# Altium integrated library TI Power Management Step-Down Regulator.IntLib: 531 symbols (part 23 of 32)
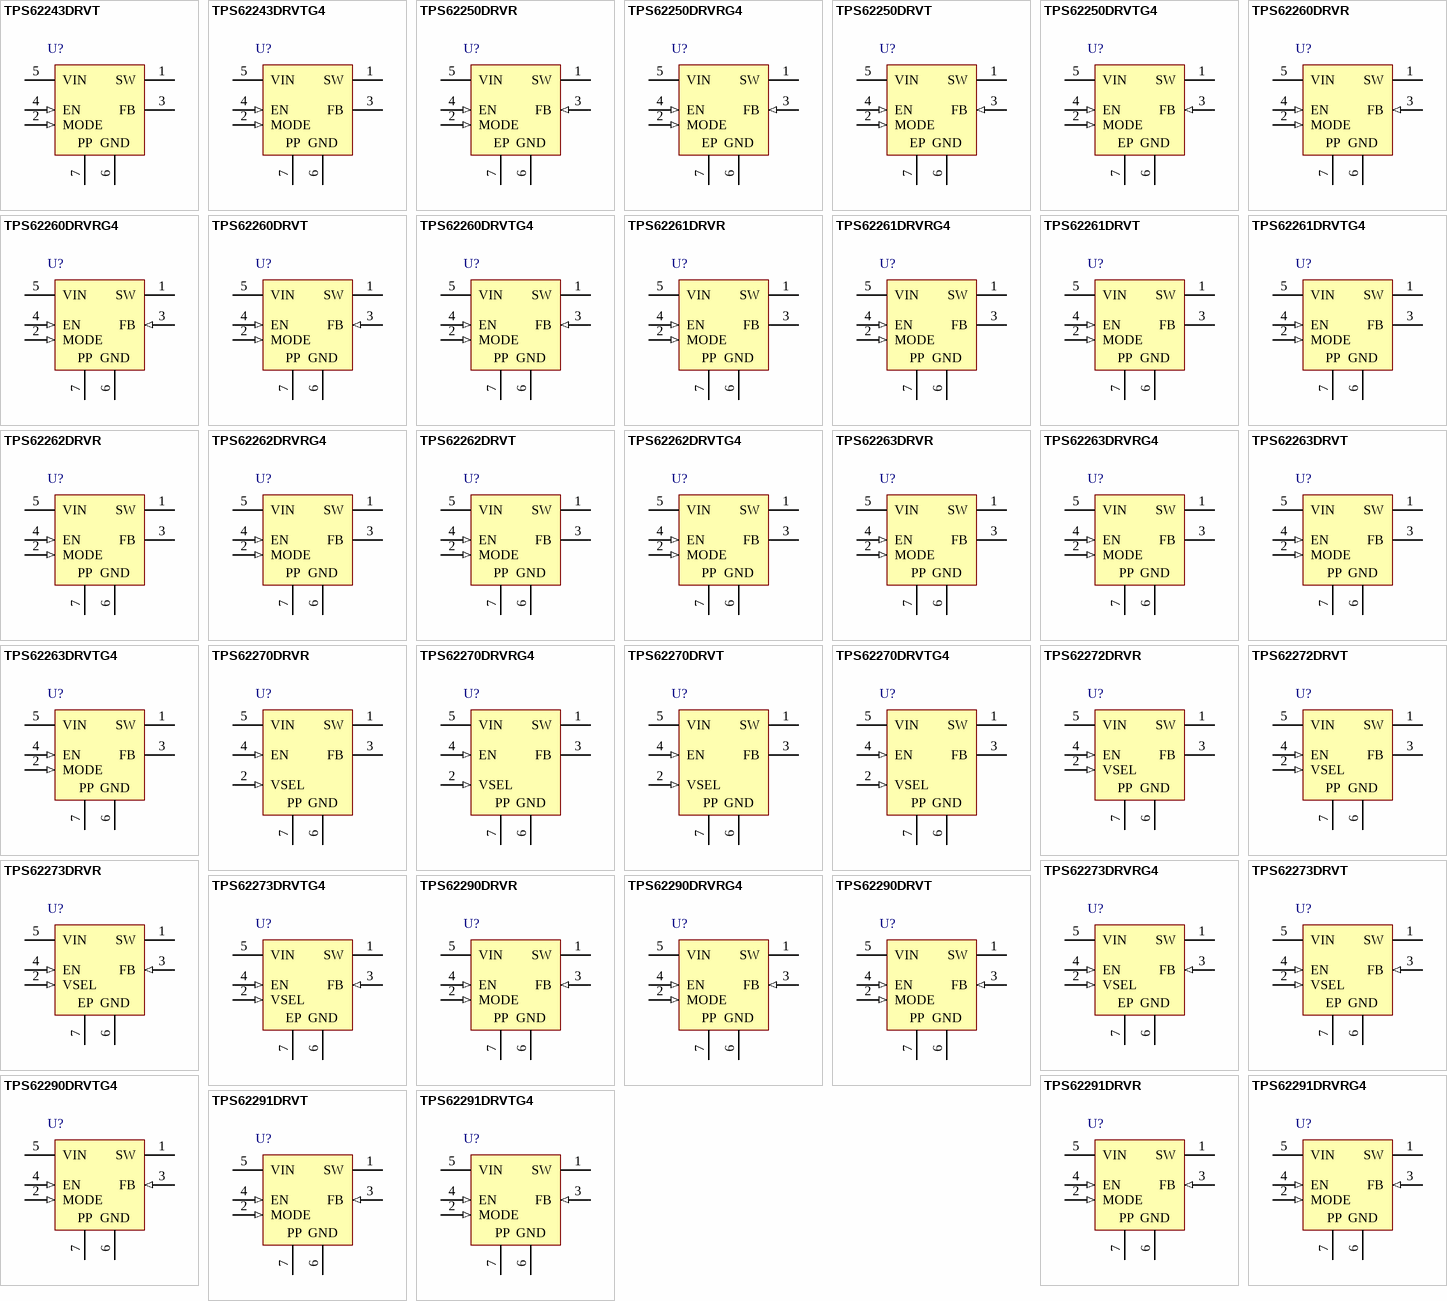
[diagram p40: symbols TPS62243DRVT to TPS62291DRVTG4]

## TPS62273DRVT
designator U?
Buck Step Down Regulator with 2 to 6 V Input and 2.5 to 3.3 V Output, -40 to 85 degC, 6-Pin SON (DRV), Green (RoHS & no Sb/Br); PartNumber: TPS62273DRVT; Manufacturer: Texas Instruments; Duty Cycle(Max)(%): 100; Dynamic Voltage Scaling: TRUE; Iout(Max)(A): 0.4; Iq(Typ)(mA): 0.015; Rating: Catalog; Regulated Outputs(#): 1; SubFamily: Step-Down Regulator; Switch Current Limit(Typ)(A): 0.7; Vin(Max)(V): 6; Vin(Min)(V): 2; Vout(Max)(V): 2.5; Vout(Min)(V): 3.3; DatasheetVersion: SLVS799C; PackageVersion: revE, Oct-2010; PackageReference: DRV6-1600X1000TP; PackageDescription: 6-Pin Plastic Small Outline No-Lead, 2 x 2 x 0.8 mm Body, 0.65 mm Pitch, Exposed Pad; Supplier 1: Digi-Key; Supplier Part Number 1: 296-32507-2-ND; Supplier 2: Digi-Key; Supplier Part Number 2: 296-32507-1-ND; Supplier 3: Digi-Key; Supplier Part Number 3: 296-32507-6-ND; Supplier 4: Mouser; Supplier Part Number 4: 595-TPS62273DRVT; Eco-Plan: Green (RoHS & no Sb/Br); Synchronous Rectification: TRUE; Topology: Buck; Mounting Technology: Surface Mount; ComponentLink1Description: Datasheet; ComponentLink1URL: http://www.ti.com/general/docs/lit/getliterature.tsp?genericPartNumber=TPS62273&fileType=pdf; ComponentLink2Description: URL Link1; ComponentLink2URL: Samples URL:http://www.ti.com/product/tps62273#samples
footprint DRV6-1600X1000TP (SON, 6-Leads, Body 2x2mm, Pitch 0.65mm, Thermal Pad 1.6x1mm, TI Recommended)
pins: 1 SW (power) "This is the switch pin and is connected to the internal MOSFET switches. Connect the inductor to this terminal", 2 VSEL (in) "Voltage Select input. Please refer to table ordering information for available output voltage selections.", 3 FB (in) "Feedback Pin for the internal regulation loop. Connect the external resistor divider to this pin. In case of fixed output voltage option, connect this pin directly to the output capacitor", 4 EN (in) "This is the enable pin of the device. Pulling this pin to low forces the device into shutdown mode. Pulling this pin to high enables the device. This pin must be terminated.", 5 VIN (power) "VIN power supply pin.", 6 GND (power) "GND supply pin", 7 EP (power) "Exposed Pad"

## TPS62273DRVTG4
designator U?
Buck Step Down Regulator with 2 to 6 V Input and 2.5 to 3.3 V Output, -40 to 85 degC, 6-Pin SON (DRV), Green (RoHS & no Sb/Br); PartNumber: TPS62273DRVTG4; Manufacturer: Texas Instruments; Duty Cycle(Max)(%): 100; Dynamic Voltage Scaling: TRUE; Iout(Max)(A): 0.4; Iq(Typ)(mA): 0.015; Rating: Catalog; Regulated Outputs(#): 1; SubFamily: Step-Down Regulator; Switch Current Limit(Typ)(A): 0.7; Vin(Max)(V): 6; Vin(Min)(V): 2; Vout(Max)(V): 2.5; Vout(Min)(V): 3.3; DatasheetVersion: SLVS799C; PackageVersion: revE, Oct-2010; PackageReference: DRV6-1600X1000TP; PackageDescription: 6-Pin Plastic Small Outline No-Lead, 2 x 2 x 0.8 mm Body, 0.65 mm Pitch, Exposed Pad; Supplier 1: Digi-Key; Supplier Part Number 1: TPS62273DRVTG4-ND; Supplier 2: Mouser; Supplier Part Number 2: 595-TPS62273DRVTG4; Eco-Plan: Green (RoHS & no Sb/Br); Synchronous Rectification: TRUE; Topology: Buck; Mounting Technology: Surface Mount; ComponentLink1Description: Datasheet; ComponentLink1URL: http://www.ti.com/general/docs/lit/getliterature.tsp?genericPartNumber=TPS62273&fileType=pdf; ComponentLink2Description: URL Link1; ComponentLink2URL: Samples URL:http://www.ti.com/product/tps54611#samples
footprint DRV6-1600X1000TP (SON, 6-Leads, Body 2x2mm, Pitch 0.65mm, Thermal Pad 1.6x1mm, TI Recommended)
pins: 1 SW (power) "This is the switch pin and is connected to the internal MOSFET switches. Connect the inductor to this terminal", 2 VSEL (in) "Voltage Select input. Please refer to table ordering information for available output voltage selections.", 3 FB (in) "Feedback Pin for the internal regulation loop. Connect the external resistor divider to this pin. In case of fixed output voltage option, connect this pin directly to the output capacitor", 4 EN (in) "This is the enable pin of the device. Pulling this pin to low forces the device into shutdown mode. Pulling this pin to high enables the device. This pin must be terminated.", 5 VIN (power) "VIN power supply pin.", 6 GND (power) "GND supply pin", 7 EP (power) "Exposed Pad"

## TPS62290DRVR
designator U?
Buck Step Down Regulator with 2.3 to 6 V Input and 0.6 to 6 V Output, -40 to 85 degC, 6-Pin SON (DRV), Green (RoHS & no Sb/Br); PartNumber: TPS62290DRVR; Manufacturer: Texas Instruments; Duty Cycle(Max)(%): 100; Iout(Max)(A): 1; Iq(Typ)(mA): 0.015; Rating: Catalog; SubFamily: Step-Down Regulator; Switch Current Limit(Typ)(A): 1.4; Synchronous Rectification: TRUE; Vin(Max)(V): 6; Vin(Min)(V): 2.3; Vout(Min)(V): 0.6; DatasheetVersion: SLVS764C; PackageVersion: revE, Oct-2010; PackageReference: DRV6-1600X1000TP; PackageDescription: 6-Pin Plastic Small Outline No-Lead, 2 x 2 x 0.8 mm Body, 0.65 mm Pitch, Exposed Pad; Supplier 1: Digi-Key; Supplier Part Number 1: 296-27030-2-ND; Supplier 2: Digi-Key; Supplier Part Number 2: 296-27030-1-ND; Supplier 3: Digi-Key; Supplier Part Number 3: 296-27030-6-ND; Supplier 4: Newark; Supplier Part Number 4: 50M9135; Supplier 5: Mouser; Supplier Part Number 5: 595-TPS62290DRVR; Eco-Plan: Green (RoHS & no Sb/Br); Regulated Outputs(#): 1; Topology: Buck; Vout(Max)(V): 6; Mounting Technology: Surface Mount; ComponentLink1Description: Datasheet; ComponentLink1URL: http://www.ti.com/general/docs/lit/getliterature.tsp?genericPartNumber=TPS62290&fileType=pdf; ComponentLink2Description: URL Link1; ComponentLink2URL: Samples URL:http://www.ti.com/product/tps62290#samples
footprint DRV6-1600X1000TP (SON, 6-Leads, Body 2x2mm, Pitch 0.65mm, Thermal Pad 1.6x1mm, TI Recommended)
pins: 1 SW (power) "This is the switch pin and is connected to the internal MOSFET switches. Connect the external inductor between this terminal and the output capacitor.", 2 MODE (in) "MODE pin = high forces the device to operate in fixed frequency PWM mode. MODE pin = low enables the Power Save Mode with automatic transition from PFM mode to fixed frequency PWM mode.", 3 FB (in) "Feedback Pin for the internal regulation loop. Connect the external resistor divider to this pin. In case of fixed output voltage option, connect this pin directly to the output capacitor", 4 EN (in) "This is the enable pin of the device. Pulling this pin to low forces the device into shutdown mode. Pulling this pin to high enables the device. This pin must be terminated.", 5 VIN (power) "VIN power supply pin.", 6 GND (power) "GND supply pin", 7 PP (power) "Exposed Thermal Pad"

## TPS62290DRVRG4
designator U?
Buck Step Down Regulator with 2.3 to 6 V Input and 0.6 to 6 V Output, -40 to 85 degC, 6-Pin SON (DRV), Green (RoHS & no Sb/Br); PartNumber: TPS62290DRVRG4; Manufacturer: Texas Instruments; Duty Cycle(Max)(%): 100; Iout(Max)(A): 1; Iq(Typ)(mA): 0.015; Rating: Catalog; SubFamily: Step-Down Regulator; Switch Current Limit(Typ)(A): 1.4; Synchronous Rectification: TRUE; Vin(Max)(V): 6; Vin(Min)(V): 2.3; Vout(Min)(V): 0.6; DatasheetVersion: SLVS764C; PackageVersion: revE, Oct-2010; PackageReference: DRV6-1600X1000TP; PackageDescription: 6-Pin Plastic Small Outline No-Lead, 2 x 2 x 0.8 mm Body, 0.65 mm Pitch, Exposed Pad; Supplier 1: Digi-Key; Supplier Part Number 1: TPS62290DRVRG4-ND; Supplier 2: Newark; Supplier Part Number 2: 52M6139; Supplier 3: Mouser; Supplier Part Number 3: 595-TPS62290DRVRG4; Eco-Plan: Green (RoHS & no Sb/Br); Regulated Outputs(#): 1; Topology: Buck; Vout(Max)(V): 6; Mounting Technology: Surface Mount; ComponentLink1Description: Datasheet; ComponentLink1URL: http://www.ti.com/general/docs/lit/getliterature.tsp?genericPartNumber=TPS62290&fileType=pdf; ComponentLink2Description: URL Link1; ComponentLink2URL: Samples URL:http://www.ti.com/product/tps62290#samples
footprint DRV6-1600X1000TP (SON, 6-Leads, Body 2x2mm, Pitch 0.65mm, Thermal Pad 1.6x1mm, TI Recommended)
pins: 1 SW (power) "This is the switch pin and is connected to the internal MOSFET switches. Connect the external inductor between this terminal and the output capacitor.", 2 MODE (in) "MODE pin = high forces the device to operate in fixed frequency PWM mode. MODE pin = low enables the Power Save Mode with automatic transition from PFM mode to fixed frequency PWM mode.", 3 FB (in) "Feedback Pin for the internal regulation loop. Connect the external resistor divider to this pin. In case of fixed output voltage option, connect this pin directly to the output capacitor", 4 EN (in) "This is the enable pin of the device. Pulling this pin to low forces the device into shutdown mode. Pulling this pin to high enables the device. This pin must be terminated.", 5 VIN (power) "VIN power supply pin.", 6 GND (power) "GND supply pin", 7 PP (power) "Exposed Thermal Pad"

## TPS62290DRVT
designator U?
Buck Step Down Regulator with 2.3 to 6 V Input and 0.6 to 6 V Output, -40 to 85 degC, 6-Pin SON (DRV), Green (RoHS & no Sb/Br); PartNumber: TPS62290DRVT; Manufacturer: Texas Instruments; Duty Cycle(Max)(%): 100; Iout(Max)(A): 1; Iq(Typ)(mA): 0.015; Rating: Catalog; SubFamily: Step-Down Regulator; Switch Current Limit(Typ)(A): 1.4; Synchronous Rectification: TRUE; Vin(Max)(V): 6; Vin(Min)(V): 2.3; Vout(Min)(V): 0.6; DatasheetVersion: SLVS764C; PackageVersion: revE, Oct-2010; PackageReference: DRV6-1600X1000TP; PackageDescription: 6-Pin Plastic Small Outline No-Lead, 2 x 2 x 0.8 mm Body, 0.65 mm Pitch, Exposed Pad; Supplier 1: Digi-Key; Supplier Part Number 1: 296-22473-2-ND; Supplier 2: Digi-Key; Supplier Part Number 2: 296-22473-1-ND; Supplier 3: Digi-Key; Supplier Part Number 3: 296-22473-6-ND; Supplier 4: Farnell; Supplier Part Number 4: 1703400; Supplier 5: Farnell; Supplier Part Number 5: 1703400RL; Supplier 6: Newark; Supplier Part Number 6: 50M9136; Supplier 7: Mouser; Supplier Part Number 7: 595-TPS62290DRVT; Eco-Plan: Green (RoHS & no Sb/Br); Regulated Outputs(#): 1; Topology: Buck; Vout(Max)(V): 6; Mounting Technology: Surface Mount; ComponentLink1Description: Datasheet; ComponentLink1URL: http://www.ti.com/general/docs/lit/getliterature.tsp?genericPartNumber=TPS62290&fileType=pdf; ComponentLink2Description: URL Link1; ComponentLink2URL: Samples URL:http://www.ti.com/product/tps62290#samples
footprint DRV6-1600X1000TP (SON, 6-Leads, Body 2x2mm, Pitch 0.65mm, Thermal Pad 1.6x1mm, TI Recommended)
pins: 1 SW (power) "This is the switch pin and is connected to the internal MOSFET switches. Connect the external inductor between this terminal and the output capacitor.", 2 MODE (in) "MODE pin = high forces the device to operate in fixed frequency PWM mode. MODE pin = low enables the Power Save Mode with automatic transition from PFM mode to fixed frequency PWM mode.", 3 FB (in) "Feedback Pin for the internal regulation loop. Connect the external resistor divider to this pin. In case of fixed output voltage option, connect this pin directly to the output capacitor", 4 EN (in) "This is the enable pin of the device. Pulling this pin to low forces the device into shutdown mode. Pulling this pin to high enables the device. This pin must be terminated.", 5 VIN (power) "VIN power supply pin.", 6 GND (power) "GND supply pin", 7 PP (power) "Exposed Thermal Pad"

## TPS62290DRVTG4
designator U?
Buck Step Down Regulator with 2.3 to 6 V Input and 0.6 to 6 V Output, -40 to 85 degC, 6-Pin SON (DRV), Green (RoHS & no Sb/Br); PartNumber: TPS62290DRVTG4; Manufacturer: Texas Instruments; Duty Cycle(Max)(%): 100; Iout(Max)(A): 1; Iq(Typ)(mA): 0.015; Rating: Catalog; SubFamily: Step-Down Regulator; Switch Current Limit(Typ)(A): 1.4; Synchronous Rectification: TRUE; Vin(Max)(V): 6; Vin(Min)(V): 2.3; Vout(Min)(V): 0.6; DatasheetVersion: SLVS764C; PackageVersion: revE, Oct-2010; PackageReference: DRV6-1600X1000TP; PackageDescription: 6-Pin Plastic Small Outline No-Lead, 2 x 2 x 0.8 mm Body, 0.65 mm Pitch, Exposed Pad; Supplier 1: Digi-Key; Supplier Part Number 1: TPS62290DRVTG4-ND; Supplier 2: Newark; Supplier Part Number 2: 52M6140; Supplier 3: Mouser; Supplier Part Number 3: 595-TPS62290DRVTG4; Eco-Plan: Green (RoHS & no Sb/Br); Regulated Outputs(#): 1; Topology: Buck; Vout(Max)(V): 6; Mounting Technology: Surface Mount; ComponentLink1Description: Datasheet; ComponentLink1URL: http://www.ti.com/general/docs/lit/getliterature.tsp?genericPartNumber=TPS62290&fileType=pdf; ComponentLink2Description: URL Link1; ComponentLink2URL: Samples URL:http://www.ti.com/product/tps54611#samples
footprint DRV6-1600X1000TP (SON, 6-Leads, Body 2x2mm, Pitch 0.65mm, Thermal Pad 1.6x1mm, TI Recommended)
pins: 1 SW (power) "This is the switch pin and is connected to the internal MOSFET switches. Connect the external inductor between this terminal and the output capacitor.", 2 MODE (in) "MODE pin = high forces the device to operate in fixed frequency PWM mode. MODE pin = low enables the Power Save Mode with automatic transition from PFM mode to fixed frequency PWM mode.", 3 FB (in) "Feedback Pin for the internal regulation loop. Connect the external resistor divider to this pin. In case of fixed output voltage option, connect this pin directly to the output capacitor", 4 EN (in) "This is the enable pin of the device. Pulling this pin to low forces the device into shutdown mode. Pulling this pin to high enables the device. This pin must be terminated.", 5 VIN (power) "VIN power supply pin.", 6 GND (power) "GND supply pin", 7 PP (power) "Exposed Thermal Pad"

## TPS62291DRVR
designator U?
Buck Step Down Regulator with 2.3 to 6 V Input and 3.3 V Output, -40 to 85 degC, 6-Pin SON (DRV), Green (RoHS & no Sb/Br); PartNumber: TPS62291DRVR; Manufacturer: Texas Instruments; Duty Cycle(Max)(%): 100; Iout(Max)(A): 1; Iq(Typ)(mA): 0.015; Preset Vout(V): 3.3; Rating: Catalog; SubFamily: Step-Down Regulator; Switch Current Limit(Typ)(A): 1.4; Synchronous Rectification: TRUE; Vin(Max)(V): 6; Vin(Min)(V): 2.3; DatasheetVersion: SLVS764C; PackageVersion: revE, Oct-2010; PackageReference: DRV6-1600X1000TP; PackageDescription: 6-Pin Plastic Small Outline No-Lead, 2 x 2 x 0.8 mm Body, 0.65 mm Pitch, Exposed Pad; Supplier 1: Digi-Key; Supplier Part Number 1: TPS62291DRVR-ND; Supplier 2: Newark; Supplier Part Number 2: 95M0090; Supplier 3: Mouser; Supplier Part Number 3: 595-TPS62291DRVR; Eco-Plan: Green (RoHS & no Sb/Br); Regulated Outputs(#): 1; Topology: Buck; Vout(Max)(V): 3.3; Vout(Min)(V): 3.3; Mounting Technology: Surface Mount; ComponentLink1Description: Datasheet; ComponentLink1URL: http://www.ti.com/general/docs/lit/getliterature.tsp?genericPartNumber=TPS62291&fileType=pdf; ComponentLink2Description: URL Link1; ComponentLink2URL: Samples URL:http://www.ti.com/product/tps62291#samples
footprint DRV6-1600X1000TP (SON, 6-Leads, Body 2x2mm, Pitch 0.65mm, Thermal Pad 1.6x1mm, TI Recommended)
pins: 1 SW (power) "This is the switch pin and is connected to the internal MOSFET switches. Connect the external inductor between this terminal and the output capacitor.", 2 MODE (in) "MODE pin = high forces the device to operate in fixed-frequency PWM mode. Mode pin = low enables the Power Save Mode with automatic transition from PFM mode to fixed-frequency PWM mode", 3 FB (in) "Feedback Pin for the internal regulation loop. Connect the external resistor divider to this pin. In case of fixed output voltage option, connect this pin directly to the output capacitor", 4 EN (in) "This is the enable pin of the device. Pulling this pin to low forces the device into shutdown mode. Pulling this pin to high enables the device. This pin must be terminated.", 5 VIN (power) "VIN power supply pin", 6 GND (power) "GND supply pin", 7 EP "Exposed Thermal Pad"
text: PP

## TPS62291DRVRG4
designator U?
Buck Step Down Regulator with 2.3 to 6 V Input and 3.3 V Output, -40 to 85 degC, 6-Pin SON (DRV), Green (RoHS & no Sb/Br); PartNumber: TPS62291DRVRG4; Manufacturer: Texas Instruments; Duty Cycle(Max)(%): 100; Iout(Max)(A): 1; Iq(Typ)(mA): 0.015; Preset Vout(V): 3.3; Rating: Catalog; SubFamily: Step-Down Regulator; Switch Current Limit(Typ)(A): 1.4; Synchronous Rectification: TRUE; Vin(Max)(V): 6; Vin(Min)(V): 2.3; DatasheetVersion: SLVS764C; PackageVersion: revE, Oct-2010; PackageReference: DRV6-1600X1000TP; PackageDescription: 6-Pin Plastic Small Outline No-Lead, 2 x 2 x 0.8 mm Body, 0.65 mm Pitch, Exposed Pad; Supplier 1: Digi-Key; Supplier Part Number 1: TPS62291DRVRG4-ND; Supplier 2: Mouser; Supplier Part Number 2: 595-TPS62291DRVRG4; Eco-Plan: Green (RoHS & no Sb/Br); Regulated Outputs(#): 1; Topology: Buck; Vout(Max)(V): 3.3; Vout(Min)(V): 3.3; Mounting Technology: Surface Mount; ComponentLink1Description: Datasheet; ComponentLink1URL: http://www.ti.com/general/docs/lit/getliterature.tsp?genericPartNumber=TPS62291&fileType=pdf; ComponentLink2Description: URL Link1; ComponentLink2URL: Samples URL:http://www.ti.com/product/tps62291#samples
footprint DRV6-1600X1000TP (SON, 6-Leads, Body 2x2mm, Pitch 0.65mm, Thermal Pad 1.6x1mm, TI Recommended)
pins: 1 SW (power) "This is the switch pin and is connected to the internal MOSFET switches. Connect the external inductor between this terminal and the output capacitor.", 2 MODE (in) "MODE pin = high forces the device to operate in fixed-frequency PWM mode. Mode pin = low enables the Power Save Mode with automatic transition from PFM mode to fixed-frequency PWM mode", 3 FB (in) "Feedback Pin for the internal regulation loop. Connect the external resistor divider to this pin. In case of fixed output voltage option, connect this pin directly to the output capacitor", 4 EN (in) "This is the enable pin of the device. Pulling this pin to low forces the device into shutdown mode. Pulling this pin to high enables the device. This pin must be terminated.", 5 VIN (power) "VIN power supply pin", 6 GND (power) "GND supply pin", 7 EP "Exposed Thermal Pad"
text: PP

## TPS62291DRVT
designator U?
Buck Step Down Regulator with 2.3 to 6 V Input and 3.3 V Output, -40 to 85 degC, 6-Pin SON (DRV), Green (RoHS & no Sb/Br); PartNumber: TPS62291DRVT; Manufacturer: Texas Instruments; Duty Cycle(Max)(%): 100; Iout(Max)(A): 1; Iq(Typ)(mA): 0.015; Preset Vout(V): 3.3; Rating: Catalog; SubFamily: Step-Down Regulator; Switch Current Limit(Typ)(A): 1.4; Synchronous Rectification: TRUE; Vin(Max)(V): 6; Vin(Min)(V): 2.3; DatasheetVersion: SLVS764C; PackageVersion: revE, Oct-2010; PackageReference: DRV6-1600X1000TP; PackageDescription: 6-Pin Plastic Small Outline No-Lead, 2 x 2 x 0.8 mm Body, 0.65 mm Pitch, Exposed Pad; Supplier 1: Digi-Key; Supplier Part Number 1: 296-23330-2-ND; Supplier 2: Digi-Key; Supplier Part Number 2: 296-23330-1-ND; Supplier 3: Digi-Key; Supplier Part Number 3: 296-23330-6-ND; Supplier 4: Farnell; Supplier Part Number 4: 1647918RL; Supplier 5: Farnell; Supplier Part Number 5: 1647918; Supplier 6: Newark; Supplier Part Number 6: 33P8379; Supplier 7: Newark; Supplier Part Number 7: 95M0091; Supplier 8: Mouser; Supplier Part Number 8: 595-TPS62291DRVT; Eco-Plan: Green (RoHS & no Sb/Br); Regulated Outputs(#): 1; Topology: Buck; Vout(Max)(V): 3.3; Vout(Min)(V): 3.3; Mounting Technology: Surface Mount; ComponentLink1Description: Datasheet; ComponentLink1URL: http://www.ti.com/general/docs/lit/getliterature.tsp?genericPartNumber=TPS62291&fileType=pdf; ComponentLink2Description: URL Link1; ComponentLink2URL: Samples URL:http://www.ti.com/product/tps62291#samples
footprint DRV6-1600X1000TP (SON, 6-Leads, Body 2x2mm, Pitch 0.65mm, Thermal Pad 1.6x1mm, TI Recommended)
pins: 1 SW (power) "This is the switch pin and is connected to the internal MOSFET switches. Connect the external inductor between this terminal and the output capacitor.", 2 MODE (in) "MODE pin = high forces the device to operate in fixed-frequency PWM mode. Mode pin = low enables the Power Save Mode with automatic transition from PFM mode to fixed-frequency PWM mode", 3 FB (in) "Feedback Pin for the internal regulation loop. Connect the external resistor divider to this pin. In case of fixed output voltage option, connect this pin directly to the output capacitor", 4 EN (in) "This is the enable pin of the device. Pulling this pin to low forces the device into shutdown mode. Pulling this pin to high enables the device. This pin must be terminated.", 5 VIN (power) "VIN power supply pin", 6 GND (power) "GND supply pin", 7 EP "Exposed Thermal Pad"
text: PP

## TPS62291DRVTG4
designator U?
Buck Step Down Regulator with 2.3 to 6 V Input and 3.3 V Output, -40 to 85 degC, 6-Pin SON (DRV), Green (RoHS & no Sb/Br); PartNumber: TPS62291DRVTG4; Manufacturer: Texas Instruments; Duty Cycle(Max)(%): 100; Iout(Max)(A): 1; Iq(Typ)(mA): 0.015; Preset Vout(V): 3.3; Rating: Catalog; SubFamily: Step-Down Regulator; Switch Current Limit(Typ)(A): 1.4; Synchronous Rectification: TRUE; Vin(Max)(V): 6; Vin(Min)(V): 2.3; DatasheetVersion: SLVS764C; PackageVersion: revE, Oct-2010; PackageReference: DRV6-1600X1000TP; PackageDescription: 6-Pin Plastic Small Outline No-Lead, 2 x 2 x 0.8 mm Body, 0.65 mm Pitch, Exposed Pad; Supplier 1: Digi-Key; Supplier Part Number 1: TPS62291DRVTG4-ND; Supplier 2: Mouser; Supplier Part Number 2: 595-TPS62291DRVTG4; Eco-Plan: Green (RoHS & no Sb/Br); Regulated Outputs(#): 1; Topology: Buck; Vout(Max)(V): 3.3; Vout(Min)(V): 3.3; Mounting Technology: Surface Mount; ComponentLink1Description: Datasheet; ComponentLink1URL: http://www.ti.com/general/docs/lit/getliterature.tsp?genericPartNumber=TPS62291&fileType=pdf; ComponentLink2Description: URL Link1; ComponentLink2URL: Samples URL:http://www.ti.com/product/tps54611#samples
footprint DRV6-1600X1000TP (SON, 6-Leads, Body 2x2mm, Pitch 0.65mm, Thermal Pad 1.6x1mm, TI Recommended)
pins: 1 SW (power) "This is the switch pin and is connected to the internal MOSFET switches. Connect the external inductor between this terminal and the output capacitor.", 2 MODE (in) "MODE pin = high forces the device to operate in fixed-frequency PWM mode. Mode pin = low enables the Power Save Mode with automatic transition from PFM mode to fixed-frequency PWM mode", 3 FB (in) "Feedback Pin for the internal regulation loop. Connect the external resistor divider to this pin. In case of fixed output voltage option, connect this pin directly to the output capacitor", 4 EN (in) "This is the enable pin of the device. Pulling this pin to low forces the device into shutdown mode. Pulling this pin to high enables the device. This pin must be terminated.", 5 VIN (power) "VIN power supply pin", 6 GND (power) "GND supply pin", 7 EP "Exposed Thermal Pad"
text: PP

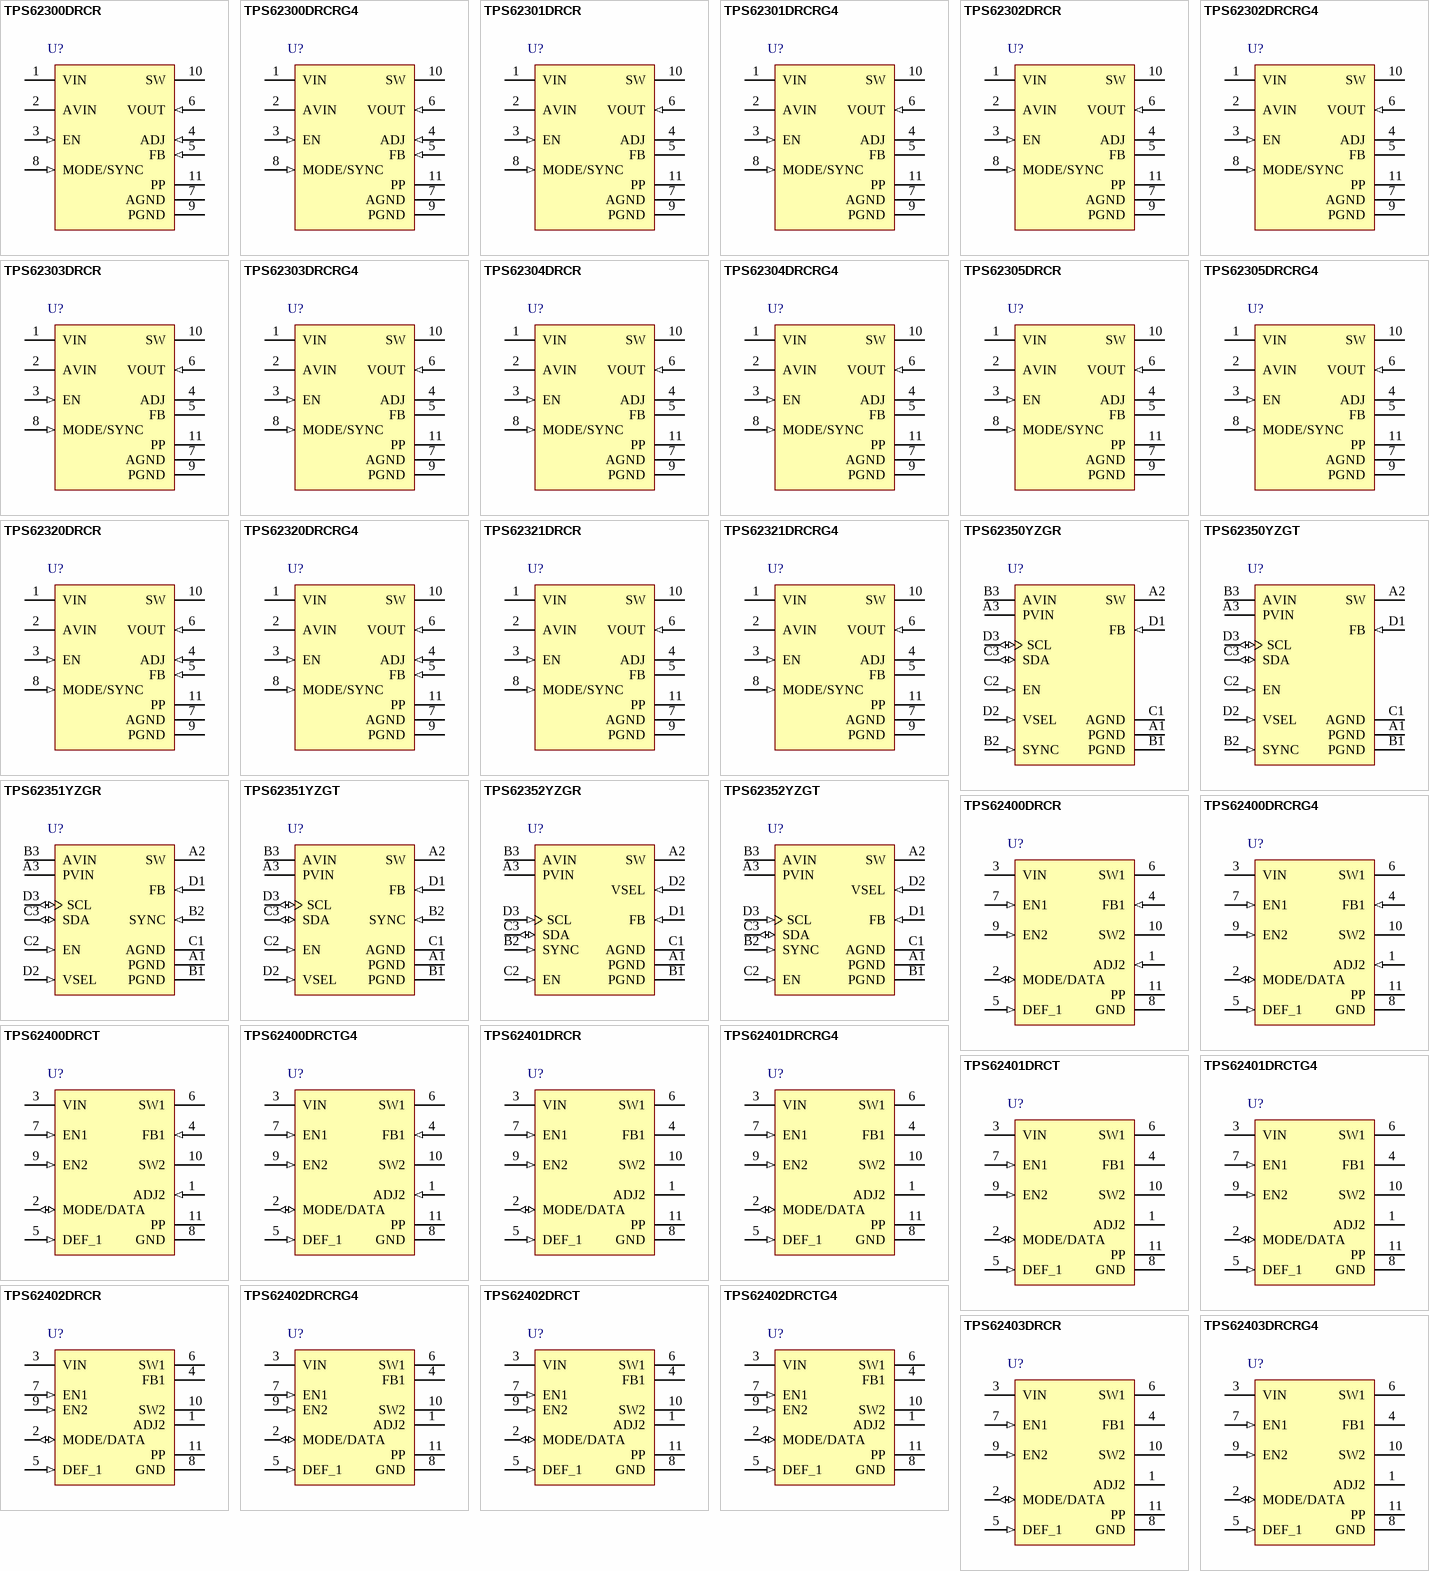
[diagram p12: symbols TPS62300DRCR to TPS62403DRCRG4]

## TPS62300DRCR
designator U?
Buck Adjustable Regulator with 2.7 to 6 V Input and 0.6 to 5.4 V Output, -40 to 85 degC, 10-Pin SON (DRC), Green (RoHS & no Sb/Br); PartNumber: TPS62300DRCR; Manufacturer: Texas Instruments; Duty Cycle(Max)(%): 100; Iout(Max)(A): 0.5; Iq(Typ)(mA): 0.086; Rating: Catalog; Regulated Outputs(#): 1; SubFamily: Step-Down Regulator; Switch Current Limit(Typ)(A): 0.74; Synchronous Rectification: TRUE; Vin(Max)(V): 6; Vin(Min)(V): 2.7; Vout(Max)(V): 5.4; Vout(Min)(V): 0.6; DatasheetVersion: SLVS528E; PackageVersion: revL, Sep-2011; PackageReference: DRC10-2400X1650TP; PackageDescription: 10-Pin Plastic Small Outline No-Lead, 3 x 3 x 1 mm Body, 0.5 mm Pitch, Exposed Pad; Supplier 1: Digi-Key; Supplier Part Number 1: 296-17594-2-ND; Supplier 2: Digi-Key; Supplier Part Number 2: 296-17594-1-ND; Supplier 3: Digi-Key; Supplier Part Number 3: 296-17594-6-ND; Supplier 4: Newark; Supplier Part Number 4: 21J9237; Supplier 5: Mouser; Supplier Part Number 5: 595-TPS62300DRCR; Eco-Plan: Green (RoHS & no Sb/Br); Topology: Buck; Mounting Technology: Surface Mount; ComponentLink1Description: Datasheet; ComponentLink1URL: http://www.ti.com/general/docs/lit/getliterature.tsp?genericPartNumber=TPS62300&fileType=pdf; ComponentLink2Description: URL Link1; ComponentLink2URL: Samples URL:http://www.ti.com/product/tps62300#samples
footprint DRC10-2400X1650TP (SON, 10-Leads, Body 3x3mm, Pitch 0.5mm, Thermal Pad 2.4x1.65mm, TI Recommended)
pins: 1 VIN (power) "Supply voltage for output power stage.", 2 AVIN (power) "This is the input voltage pin of the device. Connect directly to the input bypass capacitor.", 3 EN (in) "This is the enable pin of the device. Connecting this pin to ground forces the device into shutdown mode. Pulling this pin to VI enables the device. This pin must not be left floating and must be terminated.", 4 ADJ (in) "This is the internal reference voltage used to regulate VO. This pin is not connected on fixed output voltage version of TPS6230xDRC and TPS6232xDRC. Do not connect ADJ pin on fixed output voltage version of TPS6230xYZD, (See Datasheet)", 5 FB (in) "This is the feedback pin of the device. For the adjustable version, an external resistor divider is connected to this pin. The internal voltage divider is disabled for the adjustable version. This pin is not connected on (See Datasheet)", 6 VOUT (in) "Output feedback sense input. Connect VOUT to the converter’s output.", 7 AGND (power) "Analog ground. Connect to PGND via the PowerPAD underneath IC.", 8 MODE/SYNC (in) "Input for synchronization to external clock signal. This pin must not be left floating and must be terminated. Synchronizes the converter switching frequency to an external clock signal MODE/SYNC = LOW (GND):The device is (See Datasheet)", 9 PGND (power) "Power ground.", 10 SW (power) "This is the switch pin of the converter and is connected to the drain of the internal Power MOSFETs", 11 PP (power) "Exposed Thermal Pad"

## TPS62300DRCRG4
designator U?
Buck Adjustable Regulator with 2.7 to 6 V Input and 0.6 to 5.4 V Output, -40 to 85 degC, 10-Pin SON (DRC), Green (RoHS & no Sb/Br); PartNumber: TPS62300DRCRG4; Manufacturer: Texas Instruments; Duty Cycle(Max)(%): 100; Iout(Max)(A): 0.5; Iq(Typ)(mA): 0.086; Rating: Catalog; Regulated Outputs(#): 1; SubFamily: Step-Down Regulator; Switch Current Limit(Typ)(A): 0.74; Synchronous Rectification: TRUE; Vin(Max)(V): 6; Vin(Min)(V): 2.7; Vout(Max)(V): 5.4; Vout(Min)(V): 0.6; DatasheetVersion: SLVS528E; PackageVersion: revL, Sep-2011; PackageReference: DRC10-2400X1650TP; PackageDescription: 10-Pin Plastic Small Outline No-Lead, 3 x 3 x 1 mm Body, 0.5 mm Pitch, Exposed Pad; Supplier 1: Digi-Key; Supplier Part Number 1: TPS62300DRCRG4-ND; Supplier 2: Newark; Supplier Part Number 2: 71J8212; Supplier 3: Mouser; Supplier Part Number 3: 595-TPS62300DRCRG4; Eco-Plan: Green (RoHS & no Sb/Br); Topology: Buck; Mounting Technology: Surface Mount; ComponentLink1Description: Datasheet; ComponentLink1URL: http://www.ti.com/general/docs/lit/getliterature.tsp?genericPartNumber=TPS62300&fileType=pdf; ComponentLink2Description: URL Link1; ComponentLink2URL: Samples URL:http://www.ti.com/product/tps62300#samples
footprint DRC10-2400X1650TP (SON, 10-Leads, Body 3x3mm, Pitch 0.5mm, Thermal Pad 2.4x1.65mm, TI Recommended)
pins: 1 VIN (power) "Supply voltage for output power stage.", 2 AVIN (power) "This is the input voltage pin of the device. Connect directly to the input bypass capacitor.", 3 EN (in) "This is the enable pin of the device. Connecting this pin to ground forces the device into shutdown mode. Pulling this pin to VI enables the device. This pin must not be left floating and must be terminated.", 4 ADJ (in) "This is the internal reference voltage used to regulate VO. This pin is not connected on fixed output voltage version of TPS6230xDRC and TPS6232xDRC. Do not connect ADJ pin on fixed output voltage version of TPS6230xYZD, (See Datasheet)", 5 FB (in) "This is the feedback pin of the device. For the adjustable version, an external resistor divider is connected to this pin. The internal voltage divider is disabled for the adjustable version. This pin is not connected on (See Datasheet)", 6 VOUT (in) "Output feedback sense input. Connect VOUT to the converter’s output.", 7 AGND (power) "Analog ground. Connect to PGND via the PowerPAD underneath IC.", 8 MODE/SYNC (in) "Input for synchronization to external clock signal. This pin must not be left floating and must be terminated. Synchronizes the converter switching frequency to an external clock signal MODE/SYNC = LOW (GND):The device is (See Datasheet)", 9 PGND (power) "Power ground.", 10 SW (power) "This is the switch pin of the converter and is connected to the drain of the internal Power MOSFETs", 11 PP (power) "Exposed Thermal Pad"

## TPS62301DRCR
designator U?
Buck Step Down Regulator with 2.7 to 6 V Input and 1.5 V Output, -40 to 85 degC, 10-Pin SON (DRC), Green (RoHS & no Sb/Br); PartNumber: TPS62301DRCR; Manufacturer: Texas Instruments; Duty Cycle(Max)(%): 100; Iout(Max)(A): 0.5; Iq(Typ)(mA): 0.086; Preset Vout(V): 1.5; Rating: Catalog; Regulated Outputs(#): 1; SubFamily: Step-Down Regulator; Switch Current Limit(Typ)(A): 0.74; Synchronous Rectification: TRUE; Vin(Max)(V): 6; Vin(Min)(V): 2.7; DatasheetVersion: SLVS528E; PackageVersion: revL, Sep-2011; PackageReference: DRC10-2400X1650TP; PackageDescription: 10-Pin Plastic Small Outline No-Lead, 3 x 3 x 1 mm Body, 0.5 mm Pitch, Exposed Pad; Supplier 1: Digi-Key; Supplier Part Number 1: 296-17990-2-ND; Supplier 2: Digi-Key; Supplier Part Number 2: 296-17990-1-ND; Supplier 3: Digi-Key; Supplier Part Number 3: 296-17990-6-ND; Supplier 4: Newark; Supplier Part Number 4: 21J9240; Supplier 5: Mouser; Supplier Part Number 5: 595-TPS62301DRCR; Eco-Plan: Green (RoHS & no Sb/Br); Topology: Buck; Vout(Max)(V): 1.5; Vout(Min)(V): 1.5; Mounting Technology: Surface Mount; ComponentLink1Description: Datasheet; ComponentLink1URL: http://www.ti.com/general/docs/lit/getliterature.tsp?genericPartNumber=TPS62301&fileType=pdf; ComponentLink2Description: URL Link1; ComponentLink2URL: Samples URL:http://www.ti.com/product/tps62301#samples
footprint DRC10-2400X1650TP (SON, 10-Leads, Body 3x3mm, Pitch 0.5mm, Thermal Pad 2.4x1.65mm, TI Recommended)
pins: 1 VIN (power) "Supply voltage for output power stage.", 2 AVIN (power) "This is the input voltage pin of the device. Connect directly to the input bypass capacitor", 3 EN (in) "This is the enable pin of the device. Connecting this pin to ground forces the device into shutdown mode. Pulling this pin to VI enables the device. This pin must not be left floating and must be terminated.", 4 ADJ "This is the internal reference voltage used to regulate VO. This pin is not connected on fixed output voltage version of TPS6230xDRC and TPS6232xDRC. Do not connect ADJ pin on fixed output voltage version of TPS6230xYZD, (See Datasheet)", 5 FB "This is the feedback pin of the device. For the adjustable version, an external resistor divider is connected to this pin. The internal voltage divider is disabled for the adjustable version. This pin is not connected on (See Datasheet)", 6 VOUT (in) "Output feedback sense input. Connect VOUT to the converter’s output.", 7 AGND (power) "Analog ground. Connect to PGND via the PowerPAD underneath IC", 8 MODE/SYNC (in) "Input for synchronization to external clock signal. This pin must not be left floating and must be terminated. Synchronizes the converter switching frequency to an external clock signal MODE/SYNC = LOW (GND): The device is (See Datasheet)", 9 PGND (power) "Power ground.", 10 SW (power) "This is the switch pin of the converter and is connected to the drain of the internal Power MOSFETs", 11 PP (power) "Internally connected to PGND."

## TPS62301DRCRG4
designator U?
Buck Step Down Regulator with 2.7 to 6 V Input and 1.5 V Output, -40 to 85 degC, 10-Pin SON (DRC), Green (RoHS & no Sb/Br); PartNumber: TPS62301DRCRG4; Manufacturer: Texas Instruments; Duty Cycle(Max)(%): 100; Iout(Max)(A): 0.5; Iq(Typ)(mA): 0.086; Preset Vout(V): 1.5; Rating: Catalog; Regulated Outputs(#): 1; SubFamily: Step-Down Regulator; Switch Current Limit(Typ)(A): 0.74; Synchronous Rectification: TRUE; Vin(Max)(V): 6; Vin(Min)(V): 2.7; DatasheetVersion: SLVS528E; PackageVersion: revL, Sep-2011; PackageReference: DRC10-2400X1650TP; PackageDescription: 10-Pin Plastic Small Outline No-Lead, 3 x 3 x 1 mm Body, 0.5 mm Pitch, Exposed Pad; Supplier 1: Digi-Key; Supplier Part Number 1: TPS62301DRCRG4-ND; Supplier 2: Newark; Supplier Part Number 2: 24K6041; Supplier 3: Mouser; Supplier Part Number 3: 595-TPS62301DRCRG4; Eco-Plan: Green (RoHS & no Sb/Br); Topology: Buck; Vout(Max)(V): 1.5; Vout(Min)(V): 1.5; Mounting Technology: Surface Mount; ComponentLink1Description: Datasheet; ComponentLink1URL: http://www.ti.com/general/docs/lit/getliterature.tsp?genericPartNumber=TPS62301&fileType=pdf; ComponentLink2Description: URL Link1; ComponentLink2URL: Samples URL:http://www.ti.com/product/tps62301#samples
footprint DRC10-2400X1650TP (SON, 10-Leads, Body 3x3mm, Pitch 0.5mm, Thermal Pad 2.4x1.65mm, TI Recommended)
pins: 1 VIN (power) "Supply voltage for output power stage.", 2 AVIN (power) "This is the input voltage pin of the device. Connect directly to the input bypass capacitor", 3 EN (in) "This is the enable pin of the device. Connecting this pin to ground forces the device into shutdown mode. Pulling this pin to VI enables the device. This pin must not be left floating and must be terminated.", 4 ADJ "This is the internal reference voltage used to regulate VO. This pin is not connected on fixed output voltage version of TPS6230xDRC and TPS6232xDRC. Do not connect ADJ pin on fixed output voltage version of TPS6230xYZD, (See Datasheet)", 5 FB "This is the feedback pin of the device. For the adjustable version, an external resistor divider is connected to this pin. The internal voltage divider is disabled for the adjustable version. This pin is not connected on (See Datasheet)", 6 VOUT (in) "Output feedback sense input. Connect VOUT to the converter’s output.", 7 AGND (power) "Analog ground. Connect to PGND via the PowerPAD underneath IC", 8 MODE/SYNC (in) "Input for synchronization to external clock signal. This pin must not be left floating and must be terminated. Synchronizes the converter switching frequency to an external clock signal MODE/SYNC = LOW (GND): The device is (See Datasheet)", 9 PGND (power) "Power ground.", 10 SW (power) "This is the switch pin of the converter and is connected to the drain of the internal Power MOSFETs", 11 PP (power) "Internally connected to PGND."

## TPS62302DRCR
designator U?
Buck Step Down Regulator with 2.7 to 6 V Input and 1.6 V Output, -40 to 85 degC, 10-Pin SON (DRC), Green (RoHS & no Sb/Br); PartNumber: TPS62302DRCR; Manufacturer: Texas Instruments; Duty Cycle(Max)(%): 100; Iout(Max)(A): 0.5; Iq(Typ)(mA): 0.086; Preset Vout(V): 1.6; Rating: Catalog; Regulated Outputs(#): 1; SubFamily: Step-Down Regulator; Switch Current Limit(Typ)(A): 0.74; Synchronous Rectification: TRUE; Vin(Max)(V): 6; Vin(Min)(V): 2.7; DatasheetVersion: SLVS528E; PackageVersion: revL, Sep-2011; PackageReference: DRC10-2400X1650TP; PackageDescription: 10-Pin Plastic Small Outline No-Lead, 3 x 3 x 1 mm Body, 0.5 mm Pitch, Exposed Pad; Supplier 1: Digi-Key; Supplier Part Number 1: 296-18982-2-ND; Supplier 2: Digi-Key; Supplier Part Number 2: 296-18982-1-ND; Supplier 3: Digi-Key; Supplier Part Number 3: 296-18982-6-ND; Supplier 4: Newark; Supplier Part Number 4: 21J9243; Supplier 5: Mouser; Supplier Part Number 5: 595-TPS62302DRCR; Eco-Plan: Green (RoHS & no Sb/Br); Topology: Buck; Vout(Max)(V): 1.6; Vout(Min)(V): 1.6; Mounting Technology: Surface Mount; ComponentLink1Description: Datasheet; ComponentLink1URL: http://www.ti.com/general/docs/lit/getliterature.tsp?genericPartNumber=TPS62302&fileType=pdf; ComponentLink2Description: URL Link1; ComponentLink2URL: Samples URL:http://www.ti.com/product/tps62302#samples
footprint DRC10-2400X1650TP (SON, 10-Leads, Body 3x3mm, Pitch 0.5mm, Thermal Pad 2.4x1.65mm, TI Recommended)
pins: 1 VIN (power) "Supply voltage for output power stage.", 2 AVIN (power) "This is the input voltage pin of the device. Connect directly to the input bypass capacitor.", 3 EN (in) "This is the enable pin of the device. Connecting this pin to ground forces the device into shutdown mode. Pulling this pin to VI enables the device. This pin must not be left floating and must be terminated.", 4 ADJ "This is the internal reference voltage used to regulate VO. This pin is not connected on fixed output voltage version of TPS6230xDRC and TPS6232xDRC. Do not connect ADJ pin on fixed output voltage version of TPS6230xYZD, (See Datasheet)", 5 FB "This is the feedback pin of the device. For the adjustable version, an external resistor divider is connected to this pin. The internal voltage divider is disabled for the adjustable version. This pin is not connected on (See Datasheet)", 6 VOUT (in) "Output feedback sense input. Connect VOUT to the converter’s output.", 7 AGND (power) "Analog ground. Connect to PGND via the PowerPAD underneath IC.", 8 MODE/SYNC (in) "Input for synchronization to external clock signal. This pin must not be left floating and must be terminated. Synchronizes the converter switching frequency to an external clock signal MODE/SYNC = LOW (GND): The device is (See Datasheet)", 9 PGND (power) "Power ground.", 10 SW (power) "This is the switch pin of the converter and is connected to the drain of the internal Power MOSFETs.", 11 PP (power) "Internally connected to PGND."

## TPS62302DRCRG4
designator U?
Buck Step Down Regulator with 2.7 to 6 V Input and 1.6 V Output, -40 to 85 degC, 10-Pin SON (DRC), Green (RoHS & no Sb/Br); PartNumber: TPS62302DRCRG4; Manufacturer: Texas Instruments; Duty Cycle(Max)(%): 100; Iout(Max)(A): 0.5; Iq(Typ)(mA): 0.086; Preset Vout(V): 1.6; Rating: Catalog; Regulated Outputs(#): 1; SubFamily: Step-Down Regulator; Switch Current Limit(Typ)(A): 0.74; Synchronous Rectification: TRUE; Vin(Max)(V): 6; Vin(Min)(V): 2.7; DatasheetVersion: SLVS528E; PackageVersion: revL, Sep-2011; PackageReference: DRC10-2400X1650TP; PackageDescription: 10-Pin Plastic Small Outline No-Lead, 3 x 3 x 1 mm Body, 0.5 mm Pitch, Exposed Pad; Supplier 1: Digi-Key; Supplier Part Number 1: TPS62302DRCRG4-ND; Supplier 2: Newark; Supplier Part Number 2: 24K6042; Supplier 3: Mouser; Supplier Part Number 3: 595-TPS62302DRCRG4; Eco-Plan: Green (RoHS & no Sb/Br); Topology: Buck; Vout(Max)(V): 1.6; Vout(Min)(V): 1.6; Mounting Technology: Surface Mount; ComponentLink1Description: Datasheet; ComponentLink1URL: http://www.ti.com/general/docs/lit/getliterature.tsp?genericPartNumber=TPS62302&fileType=pdf; ComponentLink2Description: URL Link1; ComponentLink2URL: Samples URL:http://www.ti.com/product/tps62302#samples
footprint DRC10-2400X1650TP (SON, 10-Leads, Body 3x3mm, Pitch 0.5mm, Thermal Pad 2.4x1.65mm, TI Recommended)
pins: 1 VIN (power) "Supply voltage for output power stage.", 2 AVIN (power) "This is the input voltage pin of the device. Connect directly to the input bypass capacitor.", 3 EN (in) "This is the enable pin of the device. Connecting this pin to ground forces the device into shutdown mode. Pulling this pin to VI enables the device. This pin must not be left floating and must be terminated.", 4 ADJ "This is the internal reference voltage used to regulate VO. This pin is not connected on fixed output voltage version of TPS6230xDRC and TPS6232xDRC. Do not connect ADJ pin on fixed output voltage version of TPS6230xYZD, (See Datasheet)", 5 FB "This is the feedback pin of the device. For the adjustable version, an external resistor divider is connected to this pin. The internal voltage divider is disabled for the adjustable version. This pin is not connected on (See Datasheet)", 6 VOUT (in) "Output feedback sense input. Connect VOUT to the converter’s output.", 7 AGND (power) "Analog ground. Connect to PGND via the PowerPAD underneath IC.", 8 MODE/SYNC (in) "Input for synchronization to external clock signal. This pin must not be left floating and must be terminated. Synchronizes the converter switching frequency to an external clock signal MODE/SYNC = LOW (GND): The device is (See Datasheet)", 9 PGND (power) "Power ground.", 10 SW (power) "This is the switch pin of the converter and is connected to the drain of the internal Power MOSFETs.", 11 PP (power) "Internally connected to PGND."

## TPS62303DRCR
designator U?
Buck Step Down Regulator with 2.7 to 6 V Input and 1.8 V Output, -40 to 85 degC, 10-Pin SON (DRC), Green (RoHS & no Sb/Br); PartNumber: TPS62303DRCR; Manufacturer: Texas Instruments; Duty Cycle(Max)(%): 100; Iout(Max)(A): 0.5; Iq(Typ)(mA): 0.086; Preset Vout(V): 1.8; Rating: Catalog; Regulated Outputs(#): 1; SubFamily: Step-Down Regulator; Switch Current Limit(Typ)(A): 0.74; Synchronous Rectification: TRUE; Vin(Max)(V): 6; Vin(Min)(V): 2.7; DatasheetVersion: SLVS528E; PackageVersion: revL, Sep-2011; PackageReference: DRC10-2400X1650TP; PackageDescription: 10-Pin Plastic Small Outline No-Lead, 3 x 3 x 1 mm Body, 0.5 mm Pitch, Exposed Pad; Supplier 1: Digi-Key; Supplier Part Number 1: 296-18983-2-ND; Supplier 2: Digi-Key; Supplier Part Number 2: 296-18983-1-ND; Supplier 3: Digi-Key; Supplier Part Number 3: 296-18983-6-ND; Supplier 4: Newark; Supplier Part Number 4: 21J9246; Supplier 5: Mouser; Supplier Part Number 5: 595-TPS62303DRCR; Eco-Plan: Green (RoHS & no Sb/Br); Topology: Buck; Vout(Max)(V): 1.8; Vout(Min)(V): 1.8; Mounting Technology: Surface Mount; ComponentLink1Description: Datasheet; ComponentLink1URL: http://www.ti.com/general/docs/lit/getliterature.tsp?genericPartNumber=TPS62303&fileType=pdf; ComponentLink2Description: URL Link1; ComponentLink2URL: Samples URL:http://www.ti.com/product/tps62303#samples
footprint DRC10-2400X1650TP (SON, 10-Leads, Body 3x3mm, Pitch 0.5mm, Thermal Pad 2.4x1.65mm, TI Recommended)
pins: 1 VIN (power) "Supply voltage for output power stage.", 2 AVIN (power) "This is the input voltage pin of the device. Connect directly to the input bypass capacitor.", 3 EN (in) "This is the enable pin of the device. Connecting this pin to ground forces the device into shutdown mode. Pulling this pin to VI enables the device. This pin must not be left floating and must be terminated.", 4 ADJ "This is the internal reference voltage used to regulate VO. This pin is not connected on fixed output voltage version of TPS6230xDRC and TPS6232xDRC. Do not connect ADJ pin on fixed output voltage version of TPS6230xYZD, (See Datasheet)", 5 FB "This is the feedback pin of the device. For the adjustable version, an external resistor divider is connected to this pin. The internal voltage divider is disabled for the adjustable version. This pin is not connected on (See Datasheet)", 6 VOUT (in) "Output feedback sense input. Connect VOUT to the converter’s output.", 7 AGND (power) "Analog ground. Connect to PGND via the PowerPAD underneath IC.", 8 MODE/SYNC (in) "Input for synchronization to external clock signal. This pin must not be left floating and must be terminated. Synchronizes the converter switching frequency to an external clock signal MODE/SYNC = LOW (GND):The device is (See Datasheet)", 9 PGND (power) "Power ground.", 10 SW (power) "This is the switch pin of the converter and is connected to the drain of the internal Power MOSFETs", 11 PP (power) "Internally connected to PGND."

## TPS62303DRCRG4
designator U?
Buck Step Down Regulator with 2.7 to 6 V Input and 1.8 V Output, -40 to 85 degC, 10-Pin SON (DRC), Green (RoHS & no Sb/Br); PartNumber: TPS62303DRCRG4; Manufacturer: Texas Instruments; Duty Cycle(Max)(%): 100; Iout(Max)(A): 0.5; Iq(Typ)(mA): 0.086; Preset Vout(V): 1.8; Rating: Catalog; Regulated Outputs(#): 1; SubFamily: Step-Down Regulator; Switch Current Limit(Typ)(A): 0.74; Synchronous Rectification: TRUE; Vin(Max)(V): 6; Vin(Min)(V): 2.7; DatasheetVersion: SLVS528E; PackageVersion: revL, Sep-2011; PackageReference: DRC10-2400X1650TP; PackageDescription: 10-Pin Plastic Small Outline No-Lead, 3 x 3 x 1 mm Body, 0.5 mm Pitch, Exposed Pad; Supplier 1: Digi-Key; Supplier Part Number 1: TPS62303DRCRG4-ND; Supplier 2: Newark; Supplier Part Number 2: 24K6043; Supplier 3: Mouser; Supplier Part Number 3: 595-TPS62303DRCRG4; Eco-Plan: Green (RoHS & no Sb/Br); Topology: Buck; Vout(Max)(V): 1.8; Vout(Min)(V): 1.8; Mounting Technology: Surface Mount; ComponentLink1Description: Datasheet; ComponentLink1URL: http://www.ti.com/general/docs/lit/getliterature.tsp?genericPartNumber=TPS62303&fileType=pdf; ComponentLink2Description: URL Link1; ComponentLink2URL: Samples URL:http://www.ti.com/product/tps62303#samples
footprint DRC10-2400X1650TP (SON, 10-Leads, Body 3x3mm, Pitch 0.5mm, Thermal Pad 2.4x1.65mm, TI Recommended)
pins: 1 VIN (power) "Supply voltage for output power stage.", 2 AVIN (power) "This is the input voltage pin of the device. Connect directly to the input bypass capacitor.", 3 EN (in) "This is the enable pin of the device. Connecting this pin to ground forces the device into shutdown mode. Pulling this pin to VI enables the device. This pin must not be left floating and must be terminated.", 4 ADJ "This is the internal reference voltage used to regulate VO. This pin is not connected on fixed output voltage version of TPS6230xDRC and TPS6232xDRC. Do not connect ADJ pin on fixed output voltage version of TPS6230xYZD, (See Datasheet)", 5 FB "This is the feedback pin of the device. For the adjustable version, an external resistor divider is connected to this pin. The internal voltage divider is disabled for the adjustable version. This pin is not connected on (See Datasheet)", 6 VOUT (in) "Output feedback sense input. Connect VOUT to the converter’s output.", 7 AGND (power) "Analog ground. Connect to PGND via the PowerPAD underneath IC.", 8 MODE/SYNC (in) "Input for synchronization to external clock signal. This pin must not be left floating and must be terminated. Synchronizes the converter switching frequency to an external clock signal MODE/SYNC = LOW (GND):The device is (See Datasheet)", 9 PGND (power) "Power ground.", 10 SW (power) "This is the switch pin of the converter and is connected to the drain of the internal Power MOSFETs", 11 PP (power) "Internally connected to PGND."

## TPS62304DRCR
designator U?
Buck Step Down Regulator with 2.7 to 6 V Input and 1.2 V Output, -40 to 85 degC, 10-Pin SON (DRC), Green (RoHS & no Sb/Br); PartNumber: TPS62304DRCR; Manufacturer: Texas Instruments; Duty Cycle(Max)(%): 100; Iout(Max)(A): 0.5; Iq(Typ)(mA): 0.086; Preset Vout(V): 1.2; Rating: Catalog; Regulated Outputs(#): 1; SubFamily: Step-Down Regulator; Switch Current Limit(Typ)(A): 0.74; Synchronous Rectification: TRUE; Vin(Max)(V): 6; Vin(Min)(V): 2.7; DatasheetVersion: SLVS528E; PackageVersion: revL, Sep-2011; PackageReference: DRC10-2400X1650TP; PackageDescription: 10-Pin Plastic Small Outline No-Lead, 3 x 3 x 1 mm Body, 0.5 mm Pitch, Exposed Pad; Supplier 1: Digi-Key; Supplier Part Number 1: 296-19297-2-ND; Supplier 2: Digi-Key; Supplier Part Number 2: 296-19297-1-ND; Supplier 3: Digi-Key; Supplier Part Number 3: 296-19297-6-ND; Supplier 4: Newark; Supplier Part Number 4: 70K5755; Supplier 5: Mouser; Supplier Part Number 5: 595-TPS62304DRCR; Eco-Plan: Green (RoHS & no Sb/Br); Topology: Buck; Vout(Max)(V): 1.2; Vout(Min)(V): 1.2; Mounting Technology: Surface Mount; ComponentLink1Description: Datasheet; ComponentLink1URL: http://www.ti.com/general/docs/lit/getliterature.tsp?genericPartNumber=TPS62304&fileType=pdf; ComponentLink2Description: URL Link1; ComponentLink2URL: Samples URL:http://www.ti.com/product/tps62304#samples
footprint DRC10-2400X1650TP (SON, 10-Leads, Body 3x3mm, Pitch 0.5mm, Thermal Pad 2.4x1.65mm, TI Recommended)
pins: 1 VIN (power) "Supply voltage for output power stage.", 2 AVIN (power) "This is the input voltage pin of the device. Connect directly to the input bypass capacitor.", 3 EN (in) "This is the enable pin of the device. Connecting this pin to ground forces the device into shutdown mode. Pulling this pin to VI enables the device. This pin must not be left floating and must be terminated.", 4 ADJ "No Connect", 5 FB "No Connect", 6 VOUT (in) "Output feedback sense input. Connect VOUT to the converter’s output.", 7 AGND (power) "Analog ground. Connect to PGND via the PowerPAD underneath IC.", 8 MODE/SYNC (in) "Input for synchronization to external clock signal. This pin must not be left floating and must be terminated. Synchronizes the converter switching frequency to an external clock signal  MODE/SYNC = LOW (GND): The device is (See Datasheet)", 9 PGND (power) "Power ground.", 10 SW (power) "This is the switch pin of the converter and is connected to the drain of the internal Power MOSFETs.", 11 PP (power) "Internally connected to PGND."